# EAGLE library part 62504421621 (library Wire_to_Board_Connectors_rev15d)
WR-BHD 2.00mm Male Box Header, 44 Pins=>Code : Con_WTB_BHD_2.00_Male_THT_62504421621 <http://katalog.we-online.de/media/thumbs2/eican/thb_Con_WTB_BHD_2.00_Male_THT_6250xx21621_pf2.jpg> Details see: http://katalog.we-online.de/en/em/625_0xx_216_21 Created 2014-06-05, Karrer Zheng 2014 (C) Würth Elektronik
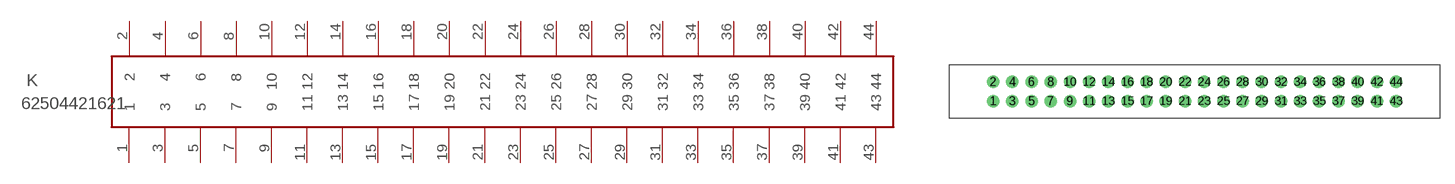
[diagram p255: symbol with the pads of 62504421621; footprint 62504421621]

Designator prefix K

## 62504421621  [62504421621]
1  1  pas
2  2  pas
3  3  pas
4  4  pas
5  5  pas
6  6  pas
7  7  pas
8  8  pas
9  9  pas
10  10  pas
11  11  pas
12  12  pas
13  13  pas
14  14  pas
15  15  pas
16  16  pas
17  17  pas
18  18  pas
19  19  pas
20  20  pas
21  21  pas
22  22  pas
23  23  pas
24  24  pas
25  25  pas
26  26  pas
27  27  pas
28  28  pas
29  29  pas
30  30  pas
31  31  pas
32  32  pas
33  33  pas
34  34  pas
35  35  pas
36  36  pas
37  37  pas
38  38  pas
39  39  pas
40  40  pas
41  41  pas
42  42  pas
43  43  pas
44  44  pas

## Footprint 62504421621 (pad centres in mm)
WR-BHD-2.00mm Male Box Header,44 pins
drill 0.8: 1 -13,-1; 2 -13,1; 3 -11,-1; 4 -11,1; 5 -9,-1; 6 -9,1; 7 -7,-1; 8 -7,1; 9 -5,-1; 10 -5,1; 11 -3,-1; 12 -3,1; 13 -1,-1; 14 -1,1; 15 1,-1; 16 1,1; 17 3,-1; 18 3,1; 19 5,-1; 20 5,1; 21 7,-1; 22 7,1; 23 9,-1; 24 9,1; 25 11,-1; 26 11,1; 27 13,-1; 28 13,1; 29 15,-1; 30 15,1; 31 17,-1; 32 17,1; 33 19,-1; 34 19,1; 35 21,-1; 36 21,1; 37 23,-1; 38 23,1; 39 25,-1; 40 25,1; 41 27,-1; 42 27,1; 43 29,-1; 44 29,1